# Altium schematic symbol library Connectors.SchLib: 30 symbols
Pins are listed as number, name and electrical type; pins without a type are passive.

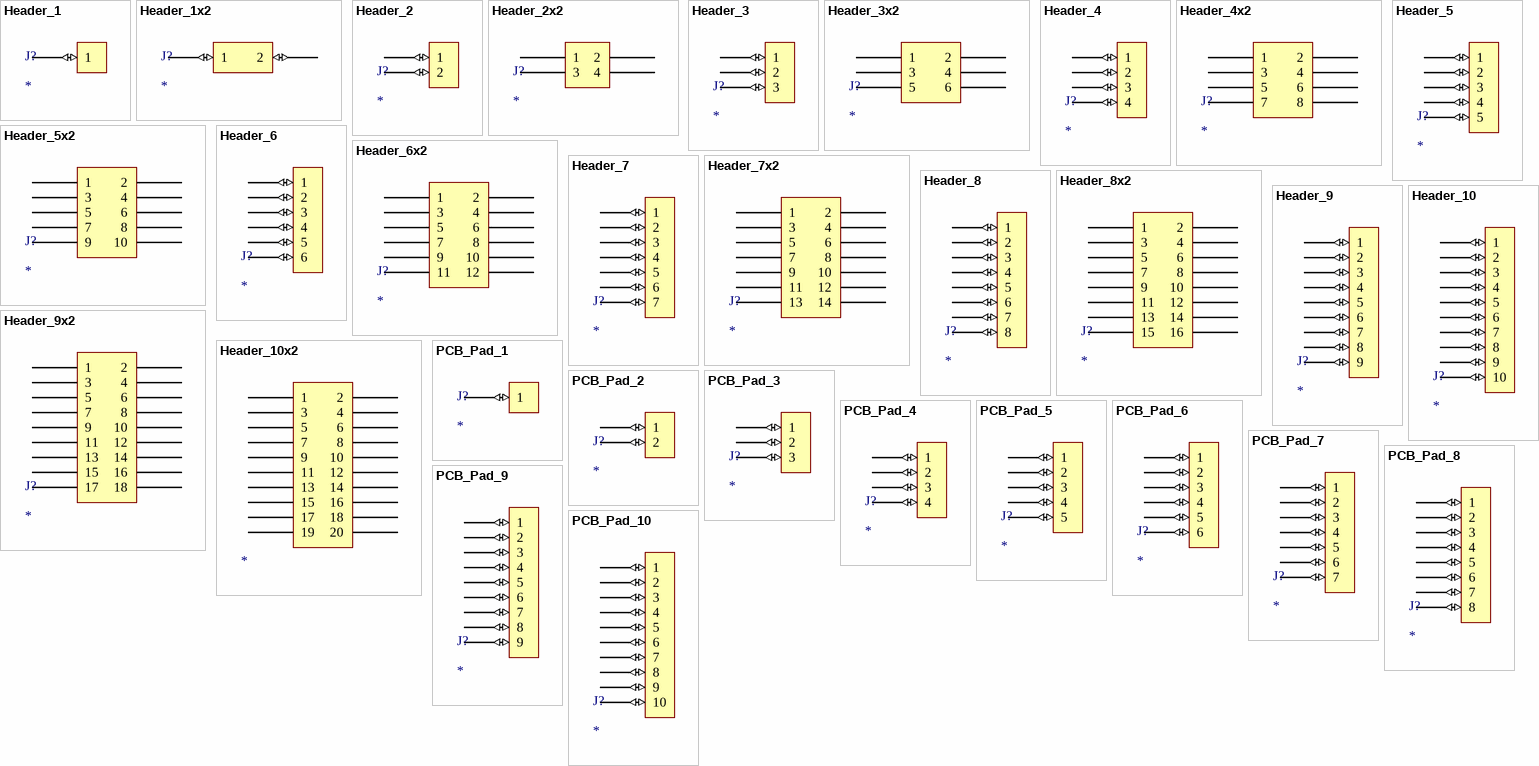
[diagram p0: symbols Header_1 to PCB_Pad_10]

## Header_1
designator J?
footprint HEADER_1
pins: 1 (io)

## Header_1x2
designator J?
footprint Header_1x2
pins: 1 (io), 2 (io)

## Header_2
designator J?
footprint HEADER_2
pins: 1 (io), 2 (io)

## Header_2x2
designator J?
footprint Header_2x2
pins: 1, 2, 3, 4

## Header_3
designator J?
footprint HEADER_3
pins: 1 (io), 2 (io), 3 (io)

## Header_3x2
designator J?
footprint Header_3x2
pins: 1, 2, 3, 4, 5, 6

## Header_4
designator J?
footprint HEADER_4
pins: 1 (io), 2 (io), 3 (io), 4 (io)

## Header_4x2
designator J?
footprint header_4x2
pins: 1, 2, 3, 4, 5, 6, 7, 8

## Header_5
designator J?
footprint HEADER_5
pins: 1 (io), 2 (io), 3 (io), 4 (io), 5 (io)

## Header_5x2
designator J?
footprint header_5x2
pins: 1, 2, 3, 4, 5, 6, 7, 8, 9, 10

## Header_6
designator J?
footprint HEADER_6
pins: 1 (io), 2 (io), 3 (io), 4 (io), 5 (io), 6 (io)

## Header_6x2
designator J?
footprint header_6x2
pins: 1, 2, 3, 4, 5, 6, 7, 8, 9, 10, 11, 12

## Header_7
designator J?
footprint HEADER_7
pins: 1 (io), 2 (io), 3 (io), 4 (io), 5 (io), 6 (io), 7 (io)

## Header_7x2
designator J?
footprint header_7x2
pins: 1, 2, 3, 4, 5, 6, 7, 8, 9, 10, 11, 12, 13, 14

## Header_8
designator J?
footprint HEADER_8
pins: 1 (io), 2 (io), 3 (io), 4 (io), 5 (io), 6 (io), 7 (io), 8 (io)

## Header_8x2
designator J?
footprint header_8x2
pins: 1, 2, 3, 4, 5, 6, 7, 8, 9, 10, 11, 12, 13, 14, 15, 16

## Header_9
designator J?
footprint HEADER_9
pins: 1 (io), 2 (io), 3 (io), 4 (io), 5 (io), 6 (io), 7 (io), 8 (io), 9 (io)

## Header_9x2
designator J?
footprint header_9x2
pins: 1, 2, 3, 4, 5, 6, 7, 8, 9, 10, 11, 12, 13, 14, 15, 16, 17, 18

## Header_10
designator J?
footprint HEADER_10
pins: 1 (io), 2 (io), 3 (io), 4 (io), 5 (io), 6 (io), 7 (io), 8 (io), 9 (io), 10 (io)

## Header_10x2
designator J?
footprint Header_10x2
pins: 1, 2, 3, 4, 5, 6, 7, 8, 9, 10, 11, 12, 13, 14, 15, 16, 17, 18, 19, 20

## PCB_Pad_1
designator J?  (no BOM)
footprint PCB_Pad_1
pins: 1 (io)

## PCB_Pad_2
designator J?  (no BOM)
footprint PCB_Pad_2
pins: 1 (io), 2 (io)

## PCB_Pad_3
designator J?  (no BOM)
footprint PCB_Pad_3
pins: 1 (io), 2 (io), 3 (io)

## PCB_Pad_4
designator J?  (no BOM)
footprint PCB_Pad_4
pins: 1 (io), 2 (io), 3 (io), 4 (io)

## PCB_Pad_5
designator J?  (no BOM)
footprint PCB_Pad_5
pins: 1 (io), 2 (io), 3 (io), 4 (io), 5 (io)

## PCB_Pad_6
designator J?  (no BOM)
footprint PCB_Pad_6
pins: 1 (io), 2 (io), 3 (io), 4 (io), 5 (io), 6 (io)

## PCB_Pad_7
designator J?  (no BOM)
footprint PCB_Pad_7
pins: 1 (io), 2 (io), 3 (io), 4 (io), 5 (io), 6 (io), 7 (io)

## PCB_Pad_8
designator J?  (no BOM)
footprint PCB_Pad_8
pins: 1 (io), 2 (io), 3 (io), 4 (io), 5 (io), 6 (io), 7 (io), 8 (io)

## PCB_Pad_9
designator J?  (no BOM)
footprint PCB_Pad_9
pins: 1 (io), 2 (io), 3 (io), 4 (io), 5 (io), 6 (io), 7 (io), 8 (io), 9 (io)

## PCB_Pad_10
designator J?  (no BOM)
footprint PCB_Pad_10
pins: 1 (io), 2 (io), 3 (io), 4 (io), 5 (io), 6 (io), 7 (io), 8 (io), 9 (io), 10 (io)